# Altium schematic symbol library PTH08T-11DIP.SchLib: 1 symbol
Pins are listed as number, name and electrical type; pins without a type are passive.

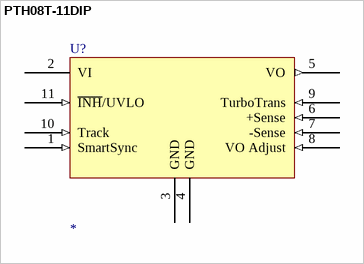
[diagram p0: symbol PTH08T-11DIP]

## PTH08T-11DIP
designator U?
pins: 1 SmartSync (in) "Switching sync input", 2 VI (power) "Voltage in", 3 GND (power) "Ground", 4 GND (power) "Ground", 5 VO (out) "Regulator output voltage", 6 +Sense (in) "Voltage sense input", 7 -Sense (in) "Voltage sense input", 8 VO Adjust (in) "Input to set the output voltage", 9 TurboTrans (in) "Input to adjust transient response", 10 Track (in) "Track input", 11 ~{INH}/UVLO (in) "Inhibit input"